# EAGLE library part AVRTINY-ATTINY20 (library Atmel_AVR8)
8-bit Microcontroller with Bytes In-System Programmable Flash
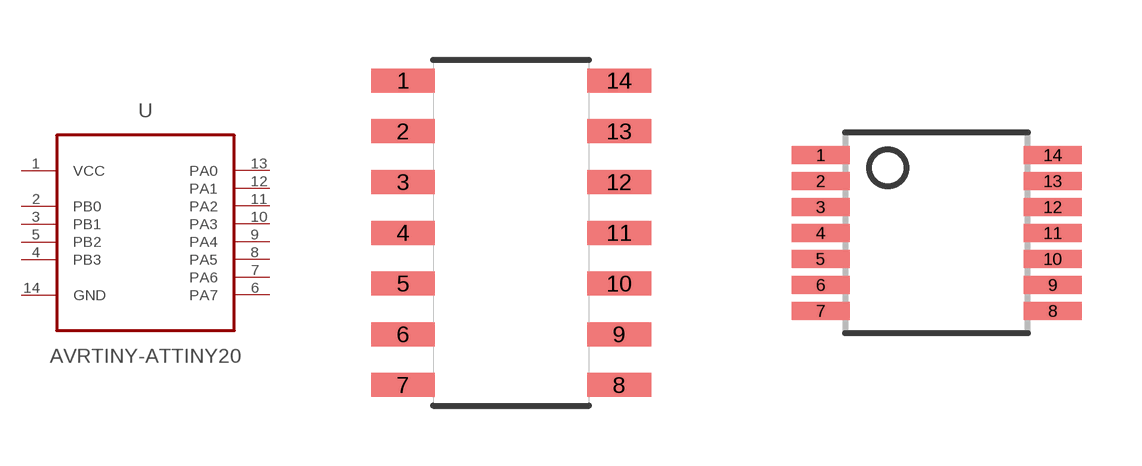
[diagram p2: symbol with the pads of 14S1; footprints 14S1, 14X]

Designator prefix U

## AVRTINY-ATTINY20-SSU (MPN: ATTINY20-SSU; PACKAGE: SOIC-14; SUPPLIER: Atmel)  [14S1]
1  VCC  pwr
2  PB0
3  PB1
4  PB3
5  PB2
6  PA7
7  PA6
8  PA5
9  PA4
10  PA3
11  PA2
12  PA1
13  PA0
14  GND  pas

## AVRTINY-ATTINY20-XU  [14X]
Pads as for 14S1

## AVRTINY-ATTINY20-CCU  [15CC1]
A2  PA5
A3  PA6
A4  PB2
B1  PA4
B2  PA7
B3  PB1
B4  PB3
C1  PA3
C2  PA2
C3  PA1
C4  PB0
D1  PA0
D2  GND  pas
D3  GND  pas
D4  VCC  pwr

## AVRTINY-ATTINY20-MMH  [20M2]
1  PA4
2  PA3
3  PA2
4  PA1
5  PA0
8  GND  pas
9  VCC  pwr
11  PB0
12  PB1
13  PB3
14  PB2
15  PA7
16  PA6
17  PA5
PAD  GND  pas

## Footprint 14S1 (pad centres in mm)
14-lead, 0.150" Wide Body, Plastic Gull Wing Small Outline Package (SOIC) Atmel PCB Mounting Guidelines for Surface Mount Packages, Page 6 <http://www.atmel.com/images/atmel-8826-seeprom-pcb-mounting-guidelines-surface-mount-packages-applicationnote.pdf#page=6>
smd 1.6 x 0.6: 1 -2.7,3.81; 2 -2.7,2.54; 3 -2.7,1.27; 4 -2.7,0; 5 -2.7,-1.27; 6 -2.7,-2.54; 7 -2.7,-3.81; 8 2.7,-3.81; 9 2.7,-2.54; 10 2.7,-1.27; 11 2.7,0; 12 2.7,1.27; 13 2.7,2.54; 14 2.7,3.81

## Footprint 14X (pad centres in mm)
14-lead, 4.4 mm Body, Thin Shrink Small Outline Package (TSSOP) Atmel PCB Mounting Guidelines for Surface Mount Packages, Page 7 <http://www.atmel.com/images/atmel-8826-seeprom-pcb-mounting-guidelines-surface-mount-packages-applicationnote.pdf#page=7>
smd 1.45 x 0.45: 1 -2.9,1.95; 2 -2.9,1.3; 3 -2.9,0.65; 4 -2.9,0; 5 -2.9,-0.65; 6 -2.9,-1.3; 7 -2.9,-1.95; 8 2.9,-1.95; 9 2.9,-1.3; 10 2.9,-0.65; 11 2.9,0; 12 2.9,0.65; 13 2.9,1.3; 14 2.9,1.95

## Footprint 15CC1 (pad centres in mm)
15-ball (4 x 4 Array), 0.65 mm Pitch, 3.0 x 3.0 x 0.6 mm, Ultra thin, Fine-Pitch Ball Grid Array Package (UFBGA) Atmel PCB Mounting Guidelines for Surface Mount Packages, Page 8 <http://www.atmel.com/images/atmel-8826-seeprom-pcb-mounting-guidelines-surface-mount-packages-applicationnote.pdf#page=8>
smd 0.25 x 0.25: A2 -0.325,0.975; A3 0.325,0.975; A4 0.975,0.975; B1 -0.975,0.325; B2 -0.325,0.325; B3 0.325,0.325; B4 0.975,0.325; C1 -0.975,-0.325; C2 -0.325,-0.325; C3 0.325,-0.325; C4 0.975,-0.325; D1 -0.975,-0.975; D2 -0.325,-0.975; D3 0.325,-0.975; D4 0.975,-0.975

## Footprint 20M2 (pad centres in mm)
20-pad, 3 x 3 x 0.85 mm Body, Very Thin Quad Flat No Lead Package (VQFN) Atmel PCB Mounting Guidelines for Surface Mount Packages, Page 12 <http://www.atmel.com/images/atmel-8826-seeprom-pcb-mounting-guidelines-surface-mount-packages-applicationnote.pdf#page=12>
smd 0.8 x 0.25: 1 -1.5,0.9; 2 -1.5,0.45; 3 -1.5,0; 4 -1.5,-0.45; 5 -1.5,-0.9; 11 1.473,-0.889; 12 1.473,-0.457; 13 1.473,0; 14 1.473,0.457; 15 1.473,0.889
smd 0.25 x 0.8: 6 -0.9,-1.5; 7 -0.45,-1.5; 8 0,-1.5; 9 0.45,-1.5; 10 0.9,-1.5; 16 0.9,1.5; 17 0.45,1.5; 18 0,1.5; 19 -0.45,1.5; 20 -0.9,1.5
smd 1.6 x 1.6: PAD 0,0